# Altium schematic symbol library MOC207M.SchLib: 1 symbol
Pins are listed as number, name and electrical type; pins without a type are passive.

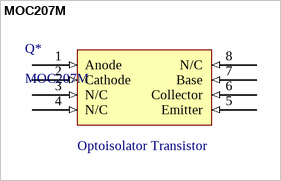
[diagram p0: symbol MOC207M]

## MOC207M
designator Q*
Optoisolator Transistor; SPN: MOC207M-ND; Desc: Optoisolator Transistor
footprint SOIC127P590X363-8N (SOIC, 8-Leads, Body 4.88x3.91mm, Pitch 1.27mm, IPC Medium Density)
pins: 1 Anode (in), 2 Cathode (in), 3 N/C (in), 4 N/C (in), 5 Emitter (in), 6 Collector (in), 7 Base (in), 8 N/C (in)